# Altium schematic symbol library SCH - CONNECTORS NET TIE 1 TO 1.SCHLIB: 1 symbol
Pins are listed as number, name and electrical type; pins without a type are passive.

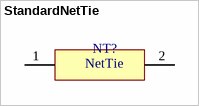
[diagram p0: symbol StandardNetTie]

## StandardNetTie
designator NT?  (value not drawn)  (net tie, no BOM)
pins: 1, 2
text: NetTie